# Altium footprint library 7447709471.PcbLib: 1 footprints
Each footprint in its own frame and in the unit in brackets; x right, y up, seen from the top. Pads: shape width x height; smd on the part's side, far side on the other; paste and mask are expansions set on the pad; w line width, h text height; cw(c..) or ccw(c..) is an arc to the next point about the centre after c.
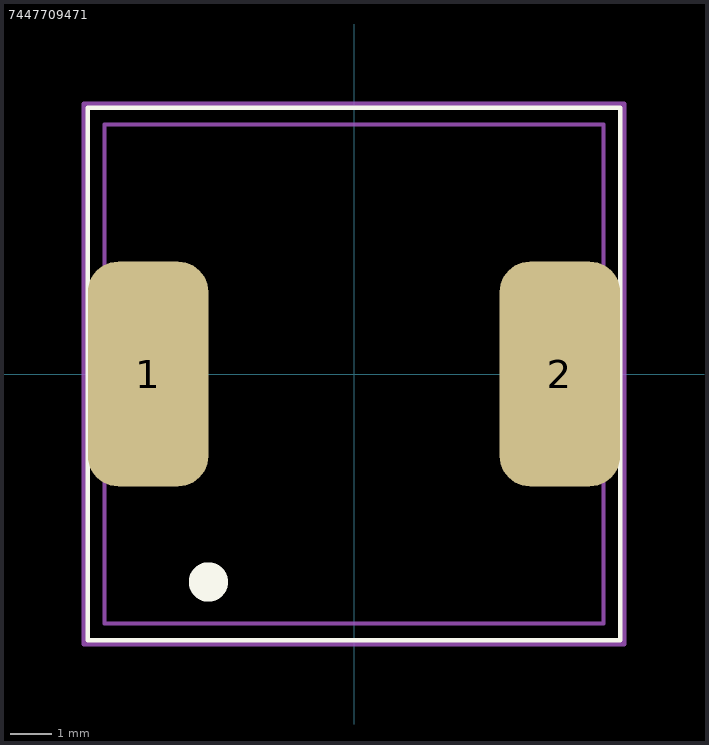
[diagram p0: the footprint, top view; thin cyan lines are the x and y axes]

## 7447709471 [mm] "Wurth Non-standard Footprint"
height 10
pads (2):
  rrect50% 2.9x5.4 smd: 1(-4.95,0) 2(4.95,0)
Top Overlay:
  circle w0.5: c-3.5,-5 r0.224
  lines w0.102: -6.4,-6.4 6.4,-6.4 6.4,6.4 -6.4,6.4 -6.4,-6.4
Mechanical 1:
  text ".Designator" at -2,0.5 h1
Mechanical 13:
  lines w0.102: -6,-6 6,-6 6,6 -6,6 -6,-6
Mechanical 15:
  lines w0.102: -6.5,-6.5 6.5,-6.5 6.5,6.5 -6.5,6.5 -6.5,-6.5
3D body: height 10, standoff 0, extent -6,-6 6,6